# Altium integrated library RC0603FR-0748K7L.IntLib: 1 symbol
Pins are listed as number, name and electrical type; pins without a type are passive.

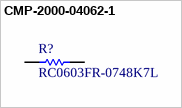
[diagram p0: symbol CMP-2000-04062-1]

## CMP-2000-04062-1
designator R?, comment RC0603FR-0748K7L
Manufacturer: Yageo; Part Number: RC0603FR-0748K7L
footprint RESC1608X55X25NL10T15 (Chip Resistor, 2-Leads, Body 1.70x0.90mm, IPC Medium Density)
footprint RESC1608X55X25ML10T15 (Chip Resistor, 2-Leads, Body 1.70x0.90mm, IPC Low Density)
footprint RESC1608X55X25LL10T15 (Chip Resistor, 2-Leads, Body 1.70x0.90mm, IPC High Density)
pins: 1, 2
1 alternate drawing of the same symbol